# Altium footprint library Component.PcbLib: 58 footprints (part 2 of 4)
Each footprint in its own frame and in the unit in brackets; x right, y up, seen from the top. Pads: shape width x height; smd on the part's side, far side on the other; paste and mask are expansions set on the pad; w line width, h text height; cw(c..) or ccw(c..) is an arc to the next point about the centre after c.
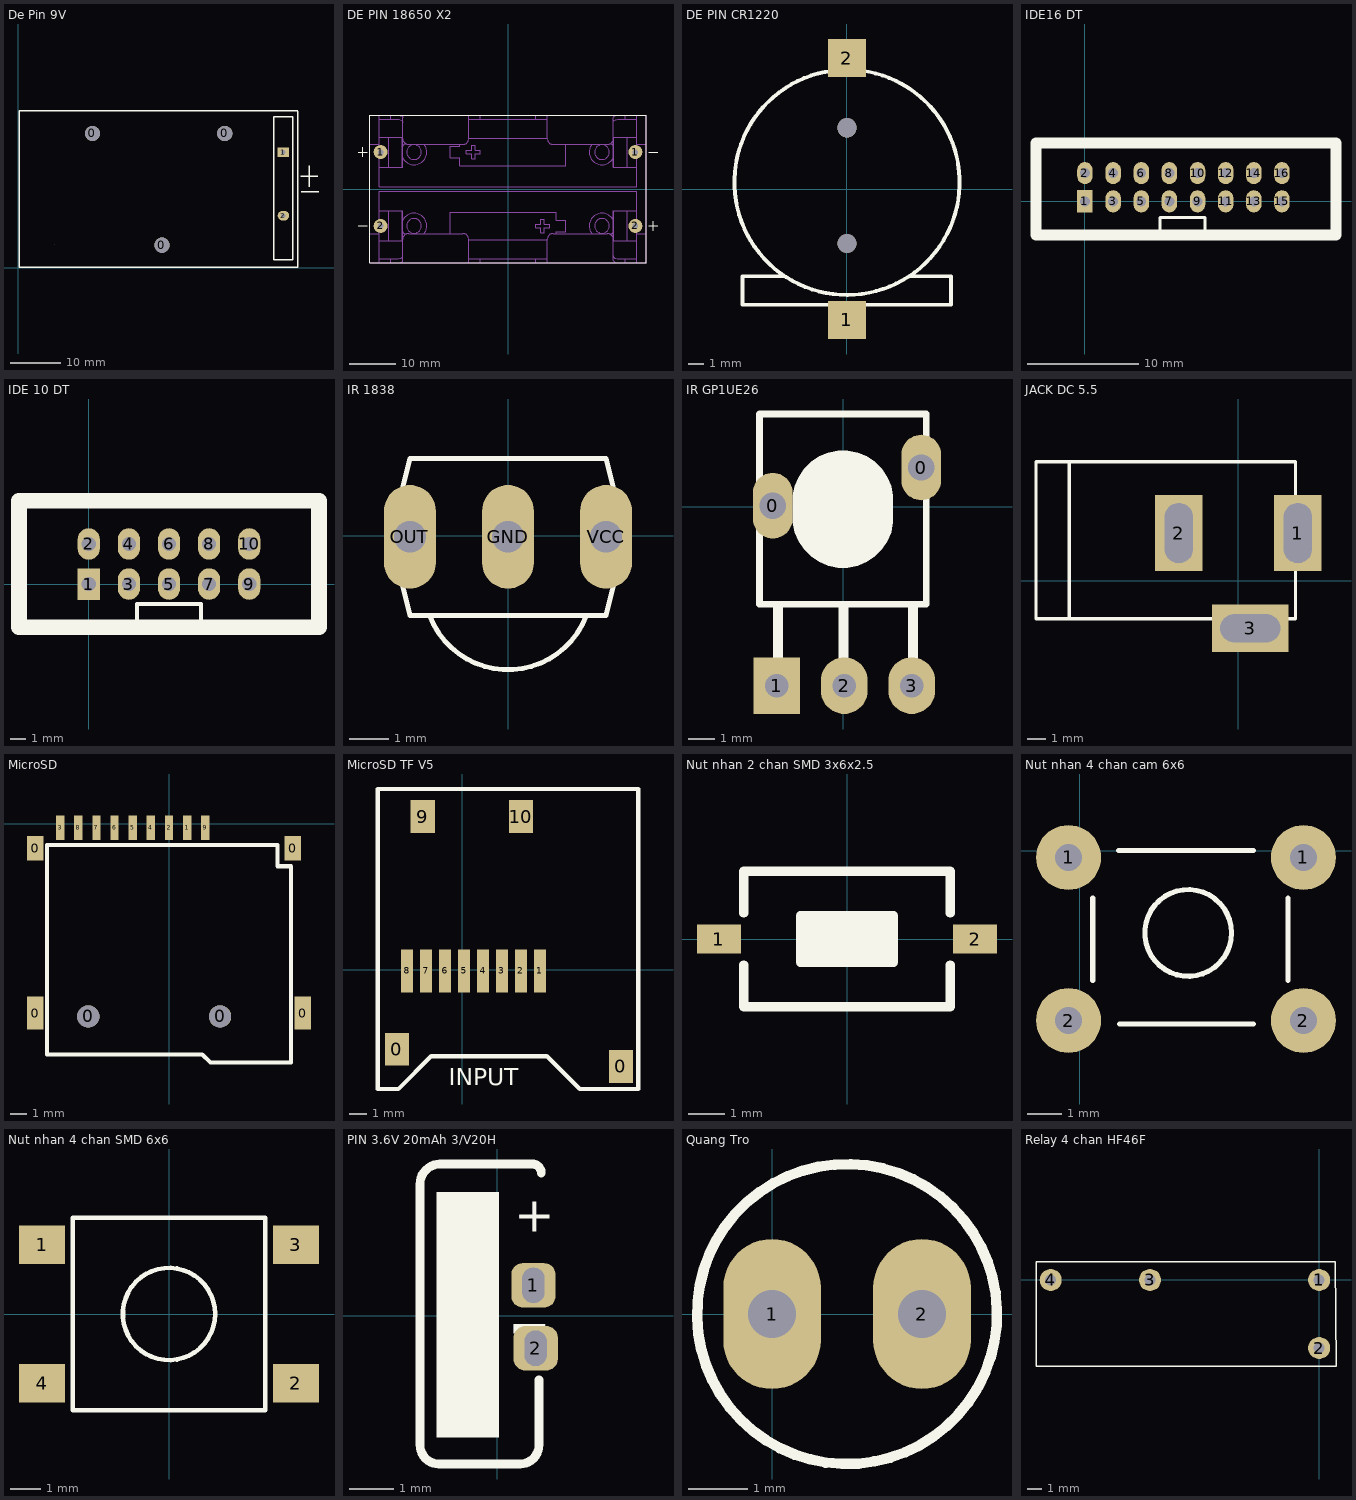
[diagram p1: the footprints below, top view; thin cyan lines are the x and y axes]

## De Pin 9V [mil]
pads (5):
  round 120 hole 120: 0(581.4,1052.4) 0(1126.9,175.9) 0(1620.4,1052.5)
  rect 90x75 hole 34: 1(2080.5,905.75)
  oval 90x75 hole 34: 2(2080.5,407.05)
Top Overlay:
  lines w10: 2193,1230.1 4.6,1230.1 4.6,3.1 2193.73,3.1 2193.73,1226.56 ; 2216.7,717.5 2351,717.5 ; 2221,595 2360,595 ; 2284.6,635.6 2284.6,799.3 ; 2005.5,60 2005.5,1185 2155.5,1185 2155.5,60 2005.5,60
Mechanical 1:
  lines w10: 283.75,183.25 283.8,183.29
3D body "User Library-9V Duracell Battery-1.STEP": height 894.49, standoff 205.51, extent 140.78,88.65 2050.23,1131.96
3D body "User Library-PP3 9V battery holder.STEP": height 855.91, standoff 44.88, extent 27.27,19.55 2172.93,1210.5

## DE PIN 18650 X2 [mil] "2-cell AA battery holder"
height 660
pads (4):
  round 120 hole 48: 1(-1086.61,314.96) 1(1086.61,314.96) 2(-1086.61,-314.96) 2(1086.61,-314.96)
Top Overlay:
  lines w5: -1279.53,-314.96 -1200.79,-314.96 ; -1279.53,314.96 -1200.79,314.96 ; -1240.16,275.59 -1240.16,354.33 ; 1200.79,-314.96 1279.53,-314.96 ; 1200.79,314.96 1279.53,314.96 ; 1240.16,-354.33 1240.16,-275.59
  lines w7.87: -1181.1,-629.92 -1181.1,629.92 1181.1,629.92 1181.1,-629.92 -1181.1,-629.92
Mechanical 13:
  drawing of 198 lines, arcs and shapes, not listed
3D body "2xAA Battery Holder.STEP": height 657.48, standoff -118.11, extent -1181.1,-629.91 1181.1,629.93
3D body "User Library-Battery-AAA.STEP": height 595.47, standoff 191.93, extent -918.03,-470 828.03,-66.45
3D body "User Library-Battery-AAA.STEP": height 595.47, standoff 191.93, extent -958.03,55 788.03,458.55

## DE PIN CR1220 [mm]
pads (2):
  rect 2.5x2.5 smd: 1(0,-8.6) 2(0,8.6)
via 0.005,-3.579 diameter 1.27 hole 1.27
via 0,4.026 diameter 1.27 hole 1.27
Top Overlay:
  lines w0.254: -4.194,-5.725 -6.868,-5.725 -6.868,-7.6 6.833,-7.6 6.833,-5.725 4.158,-5.725 ; -0.038,7.836 ccw(c0.005,0.439) 0,7.836
3D body "CR1220 SMD.STEP": height 4.27, standoff -0.48, extent -7.389,-9.42 7.36,9.38

## IDE16 DT [mm]
pads (16):
  rect 1.4x2 hole 0.9: 1(0,0)
  oval 1.4x2 hole 0.9: 2(0,2.54) 3(2.54,0) 4(2.54,2.54) 5(5.08,0) 6(5.08,2.54) 7(7.62,0) 8(7.62,2.54) 9(10.16,0) 10(10.16,2.54) 11(12.7,0) 12(12.7,2.54) 13(15.24,0) 14(15.24,2.54) 15(17.78,0) 16(17.78,2.54)
Top Overlay:
  lines w0.254: 6.782,-2.718 6.782,-1.448 10.846,-1.448 10.846,-2.972
  lines w1: 8.28,-3.048 22.657,-3.048 22.657,5.27 8.28,5.27 ; 14.58,-3.048 -4.42,-3.048 -4.42,5.27 14.58,5.27

## IDE 10 DT [mm] "Connector; Header; 5x2 Position"
pads (10):
  rect 1.4x2 hole 0.9: 1(0,0)
  oval 1.4x2 hole 0.9: 2(0,2.54) 3(2.54,0) 4(2.54,2.54) 5(5.08,0) 6(5.08,2.54) 7(7.62,0) 8(7.62,2.54) 9(10.16,0) 10(10.16,2.54)
Top Overlay:
  lines w0.254: 3.048,-2.286 3.048,-1.27 6.858,-1.27 7.112,-1.27 7.112,-2.286
  lines w1: -4.42,-2.73 -4.42,5.27 14.58,5.27 14.58,-2.73 -4.42,-2.73
3D body "User Library-Tyco - 5103308-1 (Shrouded Header 2_54mm 10 Pin).step": height 9.86, standoff -3.05, extent -5.08,-3.302 15.24,5.842

## IR 1838 [mil]
pads (3):
  oval 52x104 hole 32: GND(-0.05,-1.05) OUT(-98.47,-1.05) VCC(98.38,-1.05)
Top Overlay:
  lines w5: -78.56,-80.4 ccw(c-0.05,-50.26) 78.46,-80.4 ; -118.16,-1.05 -98.47,-79.79 -78.79,-79.79 78.69,-79.79 98.38,-79.79 118.06,-1.05 98.38,77.69 -98.47,77.69 -118.16,-1.05
3D body "TSOP1838--3DModel-STEP-510211.STEP": height 503.54, standoff -716.93, extent -118.11,-164.88 118.11,55

## IR GP1UE26 [mm]
pads (5):
  oval 1.5x2.5 hole 1 square: 0(-2.675,0.05) 0(2.975,1.5)
  rect 1.778x2.159 hole 0.889: 1(-2.525,-6.8)
  oval 1.778x2.159 hole 0.889: 2(0.047,-6.8) 3(2.612,-6.8)
Top Overlay:
  region: 1.9,0.234 1.9,-0.401 1.9,-0.589 1.827,-0.957 1.683,-1.303 1.475,-1.615 1.209,-1.881 0.897,-2.089 0.551,-2.233 0.183,-2.306 -0.005,-2.306 -0.193,-2.306 -0.561,-2.233 -0.907,-2.089 -1.219,-1.881 -1.485,-1.615 -1.693,-1.303 -1.837,-0.957 -1.91,-0.589 -1.91,-0.401 -1.91,0.234 -1.91,0.422 -1.837,0.79 -1.693,1.136 -1.485,1.448 -1.219,1.714 -0.907,1.922 -0.561,2.066 -0.193,2.139 -0.005,2.139 0.183,2.139 0.551,2.066 0.897,1.922 1.209,1.714 1.475,1.448 1.683,1.136 1.827,0.79 1.9,0.422
  lines w0.254: -3.18,-3.703 3.17,-3.703 3.17,3.536 -3.18,3.536 -3.18,-3.703
  lines w0.381: -2.469,-6.421 -2.469,-3.83 ; 0.02,-6.472 0.02,-3.83 ; 2.662,-6.497 2.662,-3.83
Mechanical 1:
  text "O G V" at -2.275,-5.375 h2
3D body "User Library-GP1UE26.STEP": height 7.1, standoff -3.6, extent -3.375,-6.925 3.425,2.875

## JACK DC 5.5 [mm] "Jac DC input"
height 5.08
pads (3):
  rect 2.54x4.064 hole 1.5 slot 3.2 at 90 deg: 1(3.175,2.54) 2(-3.175,2.54)
  rect 4.064x2.54 hole 1.5 slot 3.2 at 0 deg: 3(0.635,-2.54)
Top Overlay:
  lines w0.178: -9.017,-2.032 -9.017,6.35 ; -10.795,-2.032 -10.795,6.35 3.048,6.35 3.048,-2.032 -10.795,-2.032
3D body "SW3dPS-dc range - dc connector[4840.2201].STEP": height 11.02, standoff -3.48, extent -10.423,-2.67 3.404,6.836

## MicroSD [mm]
pads (15):
  rect 1x2 smd: 0(-8.1,-11.5) 0(8.1,-11.5)
  rect 1x1.5 smd: 0(-8.1,-1.5) 0(7.5,-1.5)
  round 1.35 hole 1.35: 0(-4.9,-11.7) 0(3.1,-11.7)
  rect 0.5x1.5 smd: 1(1.1,-0.254) 2(0,-0.254) 3(-6.6,-0.254) 4(-1.1,-0.254) 5(-2.2,-0.254) 6(-3.3,-0.254) 7(-4.4,-0.254) 8(-5.5,-0.254) 9(2.2,-0.254)
Top Overlay:
  lines w0.254: -7.4,-14 0,-14 2.015,-14 2.515,-14.5 7.4,-14.5 7.4,-2.591 6.579,-2.591 6.579,-1.295 -7.4,-1.295 -7.4,-14
3D body "User Library-Socket-MicroSD-Type1-with-SDCard.STEP": height 1.91, standoff -0.43, extent -6.95,-19.6 7.15,0.5

## MicroSD TF V5 [mm]
pads (12):
  rect 1.4x1.9 smd: 0(-3.8,-4.6) 0(9.2,-5.6) 9(-2.3,8.9) 10(3.4,8.9)
  rect 0.7x2.5 smd: 1(4.5,-0.054) 2(3.4,-0.054) 3(2.3,-0.054) 4(1.2,-0.054) 5(0.1,-0.054) 6(-1,-0.054) 7(-2.1,-0.054) 8(-3.2,-0.054)
Top Overlay:
  lines w0.254: -4.9,-6.909 -4.9,10.5 -1.4,10.5 6.4,10.5 10.2,10.5 10.2,-6.909 6.809,-6.909 4.9,-5 -1.8,-5 -3.709,-6.909 -3.979,-6.909 -4.9,-6.909
  text "INPUT" at -0.8,-6.7 h1
3D body "User Library-473521001_microSD.STEP": height 2, standoff 0.12, extent -4.35,-5.54 9.75,9.66

## Nut nhan 2 chan SMD 3x6x2.5 [mm] "Switch SMD type"
pads (2):
  rect 1.2x0.8 smd: 1(-3.5,0) 2(3.5,0)
Top Overlay:
  rectangle: -1.27,-0.635 1.27,0.635
  lines w0.254: -2.819,-0.711 -2.819,-1.854 2.819,-1.854 2.819,-0.711 ; -2.819,0.711 -2.819,1.854 2.819,1.854 2.819,0.711 ; -1.27,-0.635 -1.27,0.635 1.27,0.635 1.27,-0.635 -1.27,-0.635
3D body "User Library-Button-SMD.step": height 2.5, standoff 0, extent -3.05,-1.85 3.05,1.85

## Nut nhan 4 chan cam 6x6 [mil] "SW button 4pin, 250 x250 mil"
height 100
pads (4):
  round 75 hole 31: 1(-13,-8) 1(258,-8) 2(-13,-196) 2(258,-196)
Top Overlay:
  circle w6: c125,-95 r50
  lines w6: 15,-150 15,-55 ; 45,0 200,0 ; 46,-200 200,-200 ; 240,-150 240,-55
  lines w7: 239,-215 240,-214
3D body "SW3dPS-.STEP": height 275.59, standoff -137.8, extent -30.51,-225 280.51,19.09

## Nut nhan 4 chan SMD 6x6 [mil] "SW SMD button 4pin, 250 x250 mil"
height 100
pads (4):
  rect 60x50 smd: 1(-165,90) 2(165,-90) 3(165,90) 4(-165,-90)
Top Overlay:
  circle w6: c0,0 r60
  lines w6: -125,-125 -125,125 125,125 125,-125 -125,-125
3D body: height 130, standoff 80, extent -59.76,-59.88 59.76,59.88
3D body: height 80, standoff 10, extent -125,-125 125,125
3D body: height 20, standoff 0, extent 125,-105 180,-75
3D body: height 20, standoff 0, extent 125,75 180,105
3D body: height 20, standoff 0, extent -180,75 -125,105
3D body: height 20, standoff 0, extent -180,-105 -125,-75

## PIN 3.6V 20mAh 3/V20H [mm] "batttery"
height 1.1
pads (2):
  rrect50% 1x1 hole 0.5 slot 0.8 at 90 deg unplated: 1(0.813,0.686) 2(0.864,-0.737)
Top Overlay:
  region: -1.372,2.794 0.025,2.794 0.025,-2.743 -1.372,-2.743
  lines w0.2: 0.94,-1.448 0.94,-2.921 cw(c0.508,-2.921) 0.508,-3.353 -1.321,-3.353 cw(c-1.321,-2.921) -1.753,-2.921 -1.753,-2.819 -1.753,2.972 cw(c-1.295,2.972) -1.295,3.429 0.787,3.429 cw(c0.787,3.226) 0.991,3.226
  text "-" at 0.229,-1.05 h2
  text "+" at 0.379,1.896 h0.8
3D body "User Library-ms621fe.STEP": height 8.4, standoff -0.9, extent -1.742,-3.4 0.958,3.4

## Quang Tro [mil] "QUANG TRO"
height 300
pads (2):
  oval 65x100 hole 32: 1(0,0) 2(100,0)
Top Overlay:
  lines w7: 136.62,-49.97 cw(c50,0) 137.42,-48.56

## Relay 4 chan HF46F [mil]
pads (4):
  round 60 hole 30: 1(0,0) 2(0,-185.04) 3(-460,0) 4(-730,0)
Top Overlay:
  lines w3.94: -770,-235 45.78,-235 44.39,50 -770,50 -770,-235
3D body "User Library-Relay-HF46F-G 5-HS1.STEP": height 154.48, standoff -582.23, extent -763.15,-227.99 40,47.99